# EAGLE library part MPU6050 (library MPU6050)
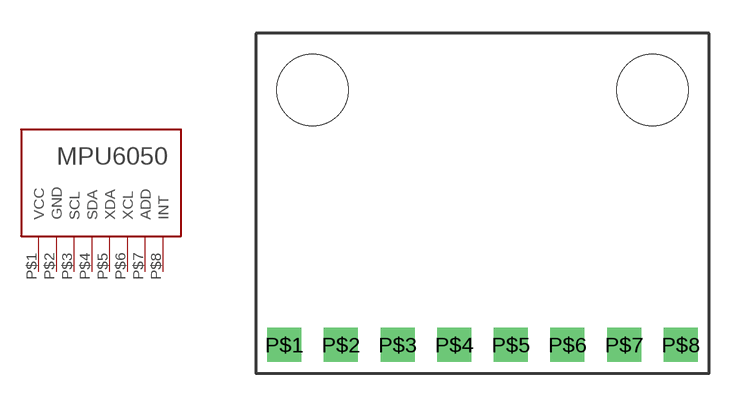
[diagram p0: symbol with the pads of MPU6050; footprint MPU6050]

Designator prefix -

## MPU6050  [MPU6050]
P$1  VCC
P$2  GND
P$3  SCL
P$4  SDA
P$5  XDA
P$6  XCL
P$7  ADD
P$8  INT

## Footprint MPU6050 (pad centres in mm)
drill 1.016 square: P$1 1.27,1.27; P$2 3.81,1.27; P$3 6.35,1.27; P$4 8.89,1.27; P$5 11.43,1.27; P$6 13.97,1.27; P$7 16.51,1.27; P$8 19.05,1.27
hole 3.2 at 2.54,12.7
hole 3.2 at 17.78,12.7